# Altium schematic symbol library Adeept.SchLib: 20 symbols
Pins are listed as number, name and electrical type; pins without a type are passive.

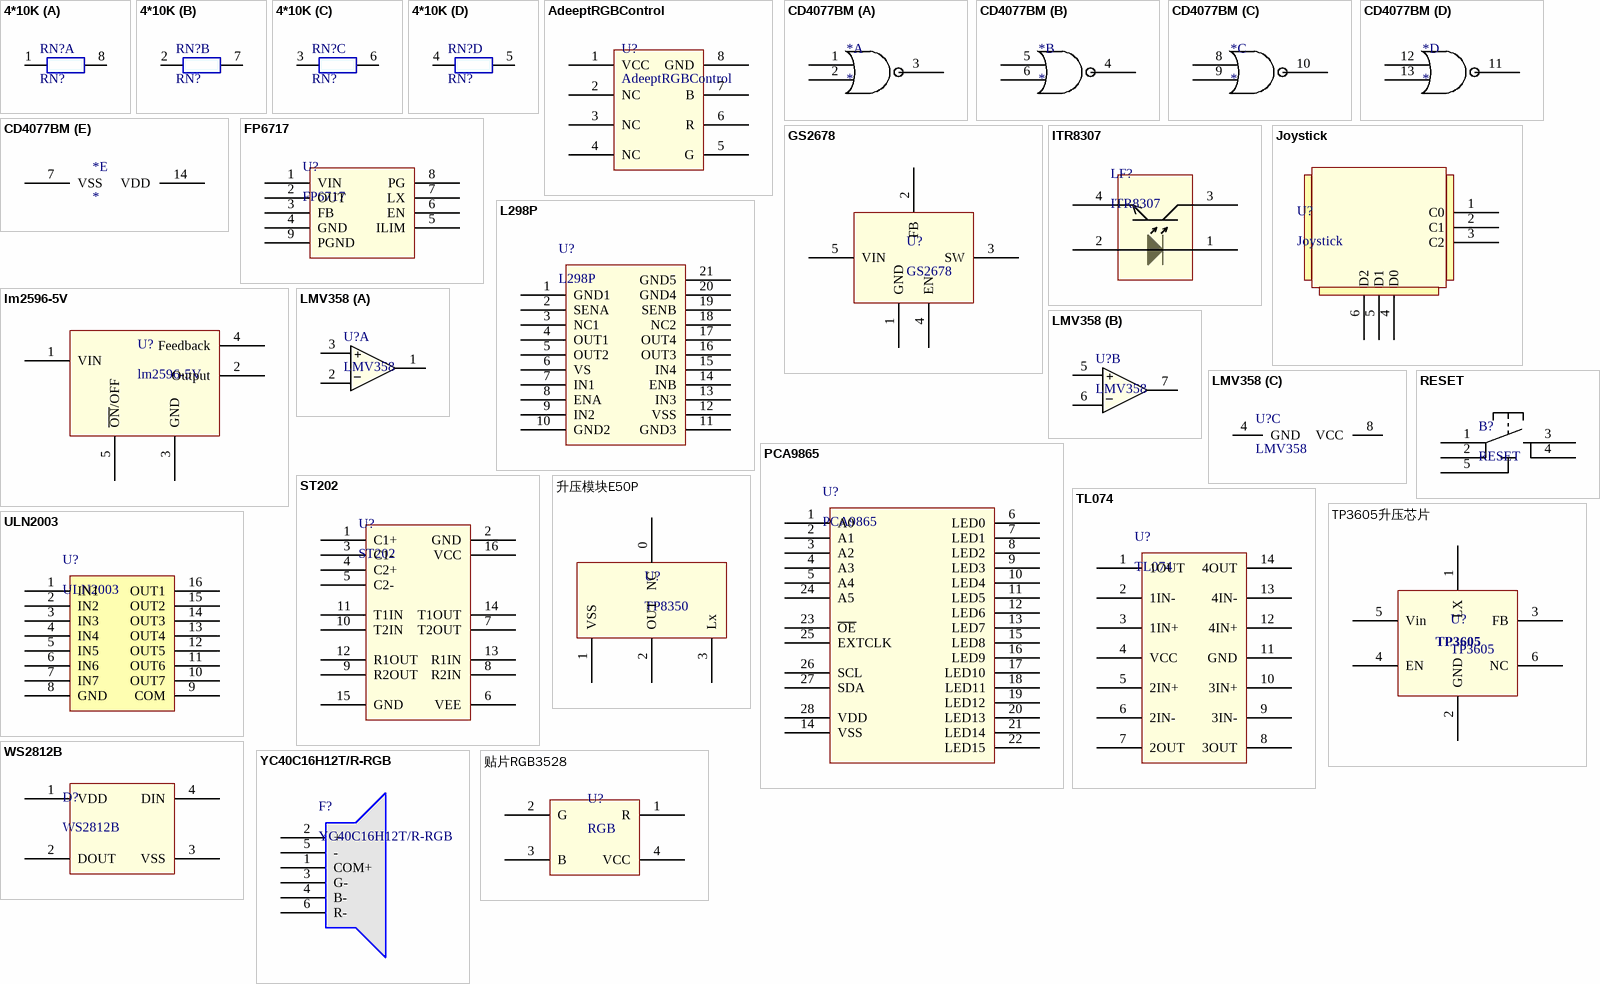
[diagram p0: symbols 4*10K to 贴片RGB3528]

## 4*10K
designator RN?, comment RN?
part A pins: 1, 8
part B pins: 2, 7
part C pins: 3, 6
part D pins: 4, 5

## AdeeptRGBControl
designator U?
pins: 1 VCC, 2 NC, 3 NC, 4 NC, 5 G, 6 R, 7 B, 8 GND

## CD4077BM
designator *
part A pins: 1, 2, 3
part B pins: 4, 5, 6
part C pins: 8, 9, 10
part D pins: 11, 12, 13
part E pins: 7 VSS, 14 VDD

## FP6717
designator U?
pins: 1 VIN, 2 OUT, 3 FB, 4 GND, 5 ILIM, 6 EN, 7 LX, 8 PG, 9 PGND

## GS2678
designator U?
pins: 1 GND, 2 FB, 3 SW, 4 EN, 5 VIN

## ITR8307
designator LF?
footprint ITR8307
pins: 1, 2, 3, 4

## Joystick
designator U?
pins: 1 C0, 2 C1, 3 C2, 4 D0, 5 D1, 6 D2

## L298P
designator U?
pins: 1 GND1, 2 SENA, 3 NC1, 4 OUT1, 5 OUT2, 6 VS, 7 IN1, 8 ENA, 9 IN2, 10 GND2, 11 GND3, 12 VSS, 13 IN3, 14 ENB, 15 IN4, 16 OUT3, 17 OUT4, 18 NC2, 19 SENB, 20 GND4, 21 GND5

## lm2596-5V
designator U?
pins: 1 VIN, 2 Output, 3 GND, 4 Feedback, 5 ~{ON}/OFF

## LMV358
designator U?
part A pins: 1 OUT, 2 IN-, 3 IN+
part B pins: 5 IN+, 6 IN-, 7 OUT
part C pins: 4 GND, 8 VCC
part A text: +; _
part B text: +; _

## PCA9865
designator U?
pins: 1 A0, 2 A1, 3 A2, 4 A3, 5 A4, 6 LED0, 7 LED1, 8 LED2, 9 LED3, 10 LED4, 11 LED5, 12 LED6, 13 LED7, 14 VSS, 15 LED8, 16 LED9, 17 LED10, 18 LED11, 19 LED12, 20 LED13, 21 LED14, 22 LED15, 23 ~{OE}, 24 A5, 25 EXTCLK, 26 SCL, 27 SDA, 28 VDD

## RESET
designator B?
pins: 1, 2, 3, 4, 5

## ST202
designator U?
pins: 1 C1+, 2 GND, 3 C1-, 4 C2+, 5 C2-, 6 VEE, 7 T2OUT, 8 R2IN, 9 R2OUT, 10 T2IN, 11 T1IN, 12 R1OUT, 13 R1IN, 14 T1OUT, 15 GND, 16 VCC

## TL074
designator U?
pins: 1 1OUT, 2 1IN-, 3 1IN+, 4 VCC, 5 2IN+, 6 2IN-, 7 2OUT, 8 3OUT, 9 3IN-, 10 3IN+, 11 GND, 12 4IN+, 13 4IN-, 14 4OUT

## TP3605升压芯片
designator U?, comment TP3605
pins: 1 LX, 2 GND, 3 FB, 4 EN, 5 Vin, 6 NC

## ULN2003
designator U?
pins: 1 IN1, 2 IN2, 3 IN3, 4 IN4, 5 IN5, 6 IN6, 7 IN7, 8 GND, 9 COM, 10 OUT7, 11 OUT6, 12 OUT5, 13 OUT4, 14 OUT3, 15 OUT2, 16 OUT1

## WS2812B
designator D?
pins: 1 VDD, 2 DOUT, 3 VSS, 4 DIN

## YC40C16H12T/R-RGB
designator F?
pins: 1 COM+, 2 +, 3 G-, 4 B-, 5 -, 6 R-

## 升压模块E50P
designator U?, comment TP8350
pins: 0 NC hidden, 0 NC, 1 VSS, 2 OUT, 3 Lx

## 贴片RGB3528
designator U?, comment RGB
pins: 1 R, 2 G, 3 B, 4 VCC